# Altium footprint library DZ_LIB.PcbLib: 61 footprints (part 4 of 4)
Each footprint in its own frame and in the unit in brackets; x right, y up, seen from the top. Pads: shape width x height; smd on the part's side, far side on the other; paste and mask are expansions set on the pad; w line width, h text height; cw(c..) or ccw(c..) is an arc to the next point about the centre after c.
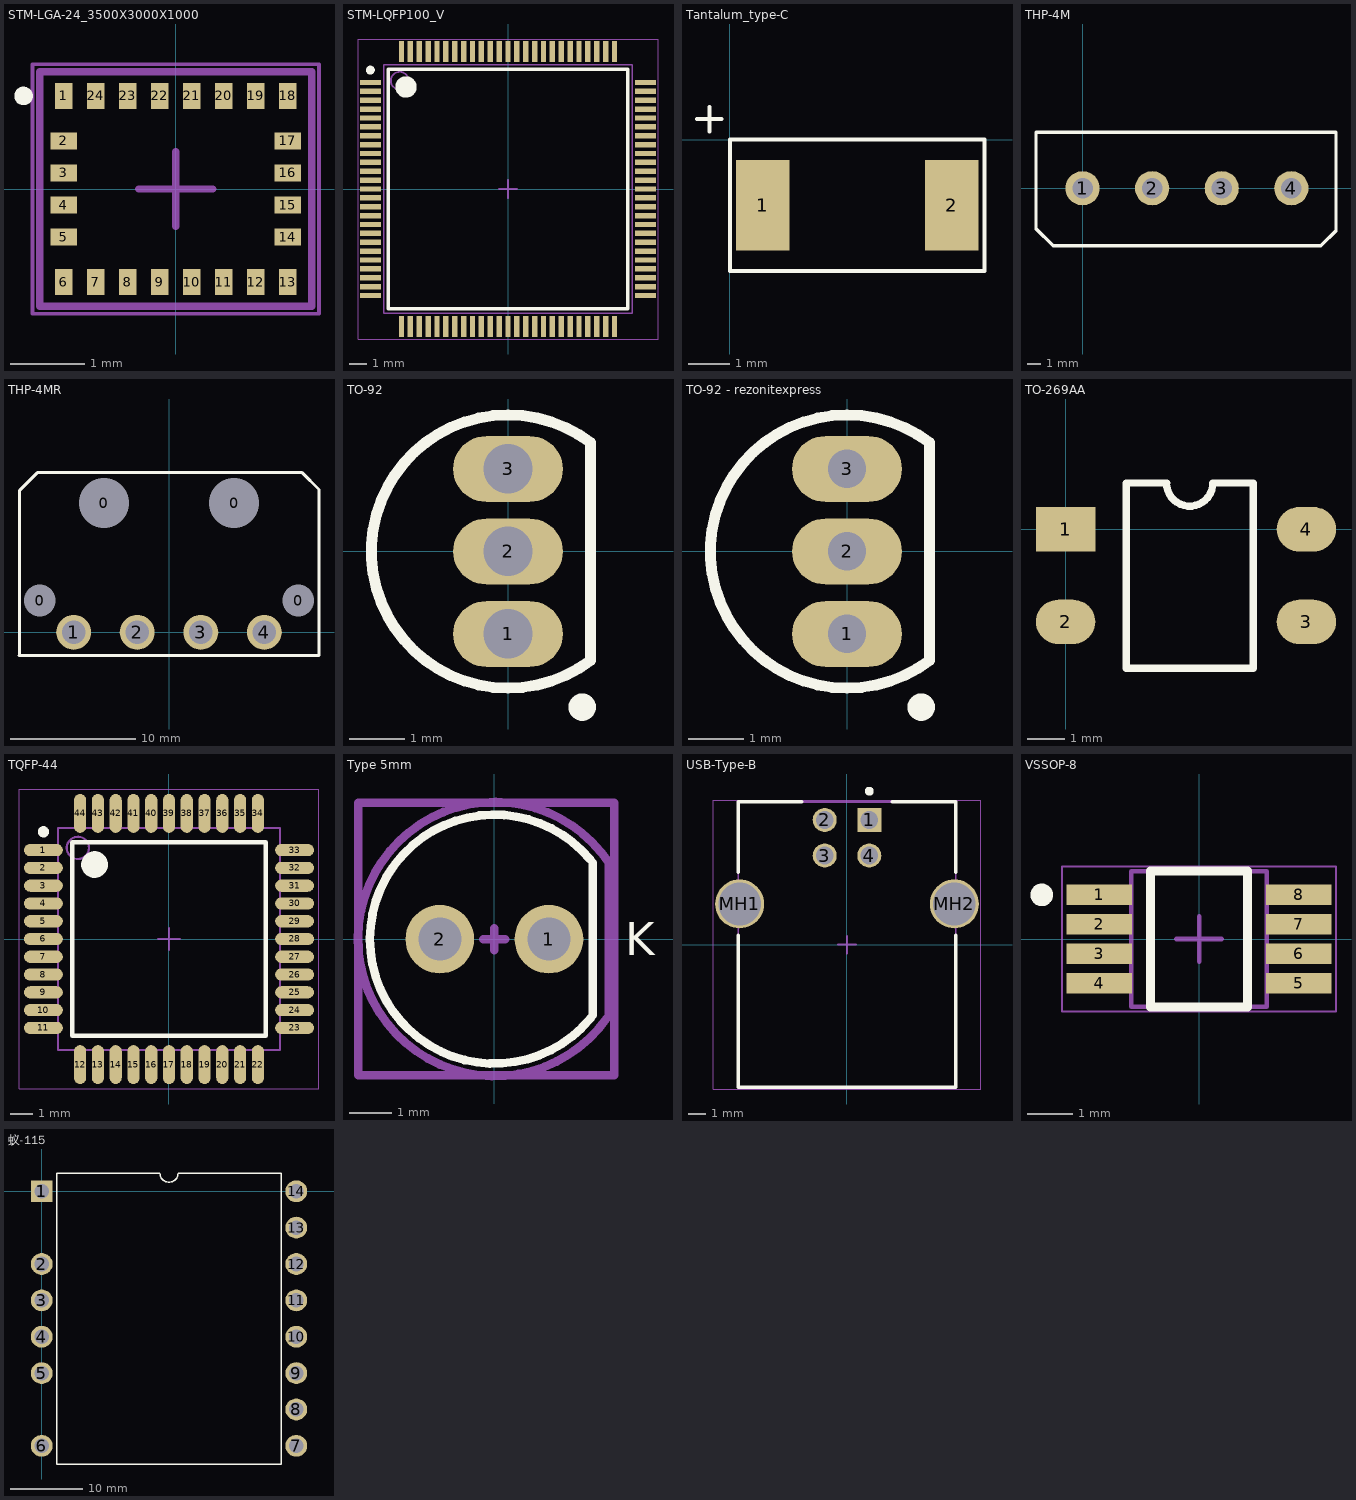
[diagram p3: the footprints below, top view; thin cyan lines are the x and y axes]

## STM-LGA-24_3500X3000X1000 [mm] "LGA, 24-Leads, Body 3.65x3.15mm, Pitch 0.43mm"
height 1.027
pads (24):
  rect 0.23x0.35 smd mask+0.05: 1(-1.505,1.25) 6(-1.505,-1.25) 7(-1.075,-1.25) 8(-0.645,-1.25) 9(-0.215,-1.25) 10(0.215,-1.25) 11(0.645,-1.25) 12(1.075,-1.25) 13(1.505,-1.25) 18(1.505,1.25) 19(1.075,1.25) 20(0.645,1.25) 21(0.215,1.25) 22(-0.215,1.25) 23(-0.645,1.25) 24(-1.075,1.25)
  rect 0.35x0.23 smd mask+0.05: 2(-1.505,0.645) 3(-1.505,0.215) 4(-1.505,-0.215) 5(-1.505,-0.645) 14(1.505,-0.645) 15(1.505,-0.215) 16(1.505,0.215) 17(1.505,0.645)
Top Overlay:
  circle w0.125: c-2.044,1.25 r0.062
Mechanical 13:
  lines w0.1: -1.825,-1.575 -1.825,1.575 1.825,1.575 1.825,-1.575 -1.825,-1.575
Mechanical 15:
  lines w0.05: -1.925,-1.675 -1.925,1.675 1.925,1.675 1.925,-1.675 -1.925,-1.675
  lines w0.1: -0.5,0 0.5,0 ; 0,-0.5 0,0.5
3D body: height 1.03, standoff 0, extent -1.825,-1.575 1.825,1.575

## STM-LQFP100_V [mm] "Thin QFP, 100-Leads, Body 14x14mm, Pitch 0.5mm, ST Recommended"
height 1.6
pads (100):
  rect 1.2x0.3 smd: 1(-7.75,6) 2(-7.75,5.5) 3(-7.75,5) 4(-7.75,4.5) 5(-7.75,4) 6(-7.75,3.5) 7(-7.75,3) 8(-7.75,2.5) 9(-7.75,2) 10(-7.75,1.5) 11(-7.75,1) 12(-7.75,0.5) 13(-7.75,0) 14(-7.75,-0.5) 15(-7.75,-1) 16(-7.75,-1.5) 17(-7.75,-2) 18(-7.75,-2.5) 19(-7.75,-3) 20(-7.75,-3.5) 21(-7.75,-4) 22(-7.75,-4.5) 23(-7.75,-5) 24(-7.75,-5.5) 25(-7.75,-6) 51(7.75,-6) 52(7.75,-5.5) 53(7.75,-5) 54(7.75,-4.5) 55(7.75,-4) 56(7.75,-3.5) 57(7.75,-3) 58(7.75,-2.5) 59(7.75,-2) 60(7.75,-1.5) 61(7.75,-1) 62(7.75,-0.5) 63(7.75,0) 64(7.75,0.5) 65(7.75,1) 66(7.75,1.5) 67(7.75,2) 68(7.75,2.5) 69(7.75,3) 70(7.75,3.5) 71(7.75,4) 72(7.75,4.5) 73(7.75,5) 74(7.75,5.5) 75(7.75,6)
  rect 0.3x1.2 smd: 26(-6,-7.75) 27(-5.5,-7.75) 28(-5,-7.75) 29(-4.5,-7.75) 30(-4,-7.75) 31(-3.5,-7.75) 32(-3,-7.75) 33(-2.5,-7.75) 34(-2,-7.75) 35(-1.5,-7.75) 36(-1,-7.75) 37(-0.5,-7.75) 38(0,-7.75) 39(0.5,-7.75) 40(1,-7.75) 41(1.5,-7.75) 42(2,-7.75) 43(2.5,-7.75) 44(3,-7.75) 45(3.5,-7.75) 46(4,-7.75) 47(4.5,-7.75) 48(5,-7.75) 49(5.5,-7.75) 50(6,-7.75) 76(6,7.75) 77(5.5,7.75) 78(5,7.75) 79(4.5,7.75) 80(4,7.75) 81(3.5,7.75) 82(3,7.75) 83(2.5,7.75) 84(2,7.75) 85(1.5,7.75) 86(1,7.75) 87(0.5,7.75) 88(0,7.75) 89(-0.5,7.75) 90(-1,7.75) 91(-1.5,7.75) 92(-2,7.75) 93(-2.5,7.75) 94(-3,7.75) 95(-3.5,7.75) 96(-4,7.75) 97(-4.5,7.75) 98(-5,7.75) 99(-5.5,7.75) 100(-6,7.75)
Top Overlay:
  circle w0.6: c-5.75,5.75 r0.3
  circle w0.25: c-7.75,6.7 r0.125
  lines w0.2: -6.75,-6.75 6.75,-6.75 6.75,6.75 -6.75,6.75 -6.75,-6.75
Mechanical 13:
  circle w0.1: c-6.1,6.1 r0.5
  lines w0.1: -7,-7 7,-7 7,7 -7,7 -7,-7
Mechanical 15:
  lines w0.05: -8.45,-8.45 8.45,-8.45 8.45,8.45 -8.45,8.45 -8.45,-8.45
  lines w0.1: -0.5,0 0.5,0 ; 0,-0.5 0,0.5
3D body: height 1.6, standoff 0.05, extent -7,-7 7,7

## Tantalum_type-C [mm] "Cond"
pads (2):
  rect 1.3x2.2 smd: 1(0.8,-1.6) 2(5.4,-1.6)
Top Overlay:
  lines w0.1: -0.8,0.5 -0.2,0.5 ; -0.5,0.2 -0.5,0.8 ; 0,-3.2 6.2,-3.2 6.2,0 0,0 0,-3.2
3D body: height 2.6, standoff 0.1, extent 0,-3.2 6.2,0

## THP-4M [mm]
pads (4):
  round 2.5 hole 1.5: 1(0,0) 2(5.08,0) 3(10.16,0) 4(15.24,0)
Top Overlay:
  lines w0.254: -3.4,-2.95 -2.14,-4.21 17.38,-4.21 18.5,-3.09 18.5,4.1 -3.4,4.1 -3.4,-2.95

## THP-4MR [mm]
pads (8):
  round 1.524 hole 2.54 unplated: 0(-10.33,2.54) 0(10.33,2.54)
  round 1.524 hole 4 unplated: 0(-5.2,10.34) 0(5.2,10.34)
  round 2.8 hole 1.85: 1(-7.62,0) 2(-2.54,0) 3(2.54,0) 4(7.62,0)
Top Overlay:
  lines w0.254: -12,-1.85 12,-1.85 12,11.425 10.65,12.775 0.35,12.775 -7.375,12.775 ; -11.95,-1.85 -11.95,11.35 -10.525,12.775 -7.375,12.775 ; -7.375,12.775 -7.375,12.775

## TO-92 [mm] "TO, Flat Index; 3 In-Line, Axial Leads; Body Dia. 4.7mm; Lead Dia. 0.56 mm (max)"
height 4.95
pads (3):
  oval 2x1.2 hole 0.9: 1(0,-1.5) 2(0,0) 3(0,1.5)
Top Overlay:
  circle w0.25: c1.35,-2.83 r0.125
  lines w0.2: 1.5,-1.98 cw(c0,0) 1.5,1.98 1.5,-1.98
Mechanical 13:
  lines w0.1: 1.5,-1.98 cw(c0,0) 1.5,1.98 1.5,-1.98
Mechanical 15:
  lines w0.1: -0.5,0 0.5,0 ; 0,-0.5 0,0.5
3D body: height 4.95, standoff 0, extent -2.485,-2.495 1.501,2.495

## TO-92 - rezonitexpress [mm] "TO, Flat Index; 3 In-Line, Axial Leads; Body Dia. 4.7mm; Lead Dia. 0.56 mm (max)"
height 4.95
pads (3):
  oval 2x1.2 hole 0.7: 1(0,-1.5) 2(0,0) 3(0,1.5)
Top Overlay:
  circle w0.25: c1.35,-2.83 r0.125
  lines w0.2: 1.5,-1.98 cw(c0,0) 1.5,1.98 1.5,-1.98
Mechanical 13:
  lines w0.1: 1.5,-1.98 cw(c0,0) 1.5,1.98 1.5,-1.98
Mechanical 15:
  lines w0.1: -0.5,0 0.5,0 ; 0,-0.5 0,0.5
3D body: height 4.95, standoff 0, extent -2.485,-2.495 1.501,2.495

## TO-269AA [mm]
pads (4):
  rect 1.6x1.2 smd: 1(0,0)
  oval 1.6x1.2 smd: 2(0,-2.5) 3(6.5,-2.5) 4(6.5,0)
Top Overlay:
  lines w0.2: 1.635,-3.75 5.065,-3.75 5.065,1.25 3.975,1.25 cw(c3.35,1.25) 2.725,1.25 1.635,1.25 1.635,-3.75
3D body "User Library-TO-269AA_jam.SLDPRT": height 2.7, standoff 0, extent -0.24,-3.8 6.8,1.15

## TQFP-44 [mm] "Thin QFP, 44-Leads, Body 10x10mm, Pitch 0.8mm, IPC Medium Density"
height 1.2
pads (44):
  oval 1.75x0.55 smd: 1(-5.65,4) 2(-5.65,3.2) 3(-5.65,2.4) 4(-5.65,1.6) 5(-5.65,0.8) 6(-5.65,0) 7(-5.65,-0.8) 8(-5.65,-1.6) 9(-5.65,-2.4) 10(-5.65,-3.2) 11(-5.65,-4) 23(5.65,-4) 24(5.65,-3.2) 25(5.65,-2.4) 26(5.65,-1.6) 27(5.65,-0.8) 28(5.65,0) 29(5.65,0.8) 30(5.65,1.6) 31(5.65,2.4) 32(5.65,3.2) 33(5.65,4)
  oval 0.55x1.75 smd: 12(-4,-5.65) 13(-3.2,-5.65) 14(-2.4,-5.65) 15(-1.6,-5.65) 16(-0.8,-5.65) 17(0,-5.65) 18(0.8,-5.65) 19(1.6,-5.65) 20(2.4,-5.65) 21(3.2,-5.65) 22(4,-5.65) 34(4,5.65) 35(3.2,5.65) 36(2.4,5.65) 37(1.6,5.65) 38(0.8,5.65) 39(0,5.65) 40(-0.8,5.65) 41(-1.6,5.65) 42(-2.4,5.65) 43(-3.2,5.65) 44(-4,5.65)
Top Overlay:
  circle w0.6: c-3.35,3.35 r0.3
  circle w0.25: c-5.65,4.825 r0.125
  lines w0.2: -4.35,-4.35 4.35,-4.35 4.35,4.35 -4.35,4.35 -4.35,-4.35
Mechanical 13:
  circle w0.1: c-4.1,4.1 r0.5
  lines w0.1: -5,-5 5,-5 5,5 -5,5 -5,-5
Mechanical 15:
  lines w0.05: -6.75,-6.75 6.75,-6.75 6.75,6.75 -6.75,6.75 -6.75,-6.75
  lines w0.1: -0.5,0 0.5,0 ; 0,-0.5 0,0.5
3D body: height 1.2, standoff 0, extent -5,-5 5,5

## Type 5mm [mm] "THT, LED-5mm, 2pin- Body 5.8mm"
height 12.1
pads (2):
  round 1.6 hole 1: 1(1.27,0) 2(-1.27,0)
Top Overlay:
  lines w0.2: -2.47,1.52 cw(c0,0) 2.228,1.857 ; -2.369,1.672 ccw(c0,0) 2.239,-1.844 ; 2.286,-1.778 2.286,1.778
  text "K" at 3.048,-0.381 h0.76
Mechanical 13:
  lines w0.2: -3.175,-3.175 -3.175,3.175 2.794,3.175 2.794,-3.175 -3.175,-3.175
Mechanical 15:
  lines w0.2: -0.254,0 0.254,0 ; 0,-0.254 0,0.254 ; 2.616,-1.846 cw(c0.014,0.003) 2.667,1.778 2.667,-1.778
  text "K" at 3.048,-0.381 h0.76
  text ".Designator" at 0,0 h0.76
3D body "WL-TMRW_5mm.stp": height 11.7, standoff -23.3, extent -2.9,-2.9 2.5,2.9

## USB-Type-B [mm] "Through Hole, 6-Leads, Body 12.2x16mm"
height 10.3
pads (6):
  rect 1.35x1.35 hole 1: 1(1.254,6.99)
  round 1.35 hole 1: 2(-1.246,6.99) 3(-1.246,4.99) 4(1.254,4.99)
  round 2.75 hole 2.4: MH1(-6.016,2.28) MH2(6.024,2.28)
Top Overlay:
  circle w0.25: c1.254,8.6 r0.125
  lines w0.2: -6.096,0.507 -6.096,-8 6.104,-8 6.104,0.507 ; -6.096,4.053 -6.096,8 -2.54,8 ; 2.548,8 6.104,8 6.104,4.053
Mechanical 13:
  lines w0.1: -6.096,-8 -6.096,8 6.104,8 6.104,-8 -6.096,-8
Mechanical 15:
  lines w0.05: -7.491,-8.1 7.499,-8.1 7.499,8.1 -7.491,8.1 -7.491,-8.1
  lines w0.1: -0.496,0 0.504,0 ; 0.004,-0.5 0.004,0.5
3D body: height 11.14, standoff 0, extent -6.096,7.799 6.104,8
3D body: height 0, standoff -2.84, extent 1.055,4.791 1.453,5.189
3D body: height 0, standoff -2.84, extent 1.055,6.791 1.453,7.189
3D body: height 0, standoff -2.84, extent -1.445,6.791 -1.047,7.189
3D body: height 0, standoff -2.84, extent -1.445,4.791 -1.047,5.189
3D body: height 11.14, standoff 0, extent -6.095,-7.999 -5.897,7.999
3D body: height 11.14, standoff 0, extent 5.905,-7.999 6.103,7.999
3D body: height 11.14, standoff 10.94, extent -6.096,-8 6.103,7.999
3D body: height 0.2, standoff 0, extent -6.096,-8 6.103,7.999
3D body: height 0, standoff -2.84, extent -7.165,1.131 -4.867,3.429
3D body: height 0, standoff -2.84, extent 4.875,1.131 7.173,3.429

## VSSOP-8 [mm] "VSSOP, 8-Leads, Body 3x3mm, Pitch 0.65mm"
height 1.1
pads (8):
  rect 1.45x0.45 smd paste+0 mask+0.05: 1(-2.2,0.975) 2(-2.2,0.325) 3(-2.2,-0.325) 4(-2.2,-0.975) 5(2.2,-0.975) 6(2.2,-0.325) 7(2.2,0.325) 8(2.2,0.975)
Top Overlay:
  circle w0.25: c-3.475,0.975 r0.125
  lines w0.2: -1.075,-1.5 1.075,-1.5 1.075,1.5 -1.075,1.5 -1.075,-1.5
Mechanical 13:
  lines w0.1: -1.5,-1.5 1.5,-1.5 1.5,1.5 -1.5,1.5 -1.5,-1.5
Mechanical 15:
  lines w0.05: -3.025,-1.6 3.025,-1.6 3.025,1.6 -3.025,1.6 -3.025,-1.6
  lines w0.1: -0.5,0 0.5,0 ; 0,-0.5 0,0.5
3D body: height 1.1, standoff 0.05, extent -1.5,-1.5 1.5,1.5

## 蚁-115 [mm]
pads (14):
  rect 3x3 hole 2: 1(0,0)
  round 3 hole 2: 2(0,-10) 3(0,-15) 4(0,-20) 5(0,-25) 6(0,-35) 7(35,-35) 8(35,-30) 9(35,-25) 10(35,-20) 11(35,-15) 12(35,-10) 13(35,-5) 14(35,0)
via 17.5,-42.5 diameter 3 hole 2.5
via 17.5,7.5 diameter 3 hole 2.5
Top Overlay:
  lines w0.2: 2.085,-37.5 2.085,2.5 16.25,2.5 ccw(c17.5,2.5) 18.75,2.5 32.915,2.5 32.915,-37.5 2.085,-37.5
3D body "User Library-TP115-10_TP115.sldprt": height 38, standoff -4, extent -1.5,-48 36.5,13
3D body "User Library-TP115-10_TP115_T.sldprt": height 30, standoff 10, extent -8.4,-48 42.6,13